# Altium schematic symbol library mosfets.SchLib: 2 symbols
Pins are listed as number, name and electrical type; pins without a type are passive.

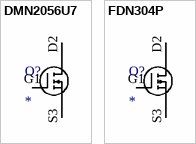
[diagram p0: symbols DMN2056U7 to FDN304P]

## DMN2056U7
designator Q?
n-mosfet
footprint DMN2056U-7 (N-Mosfet)
pins: D2 Drain, G1 Gate, S3 Source

## FDN304P
designator Q?
p-mosfet
footprint FDN304P (P-Mosfet)
pins: D2 Drain, G1 Gate, S3 Source